# Altium footprint library NTA53321G0FHKZ.PcbLib: 1 footprints
Each footprint in its own frame and in the unit in brackets; x right, y up, seen from the top. Pads: shape width x height; smd on the part's side, far side on the other; paste and mask are expansions set on the pad; w line width, h text height; cw(c..) or ccw(c..) is an arc to the next point about the centre after c.
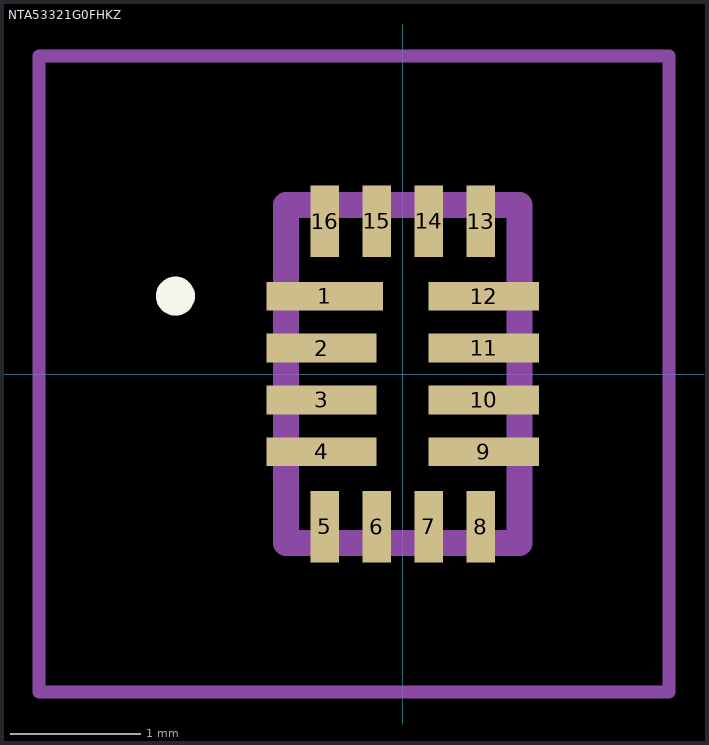
[diagram p0: the footprint, top view; thin cyan lines are the x and y axes]

## NTA53321G0FHKZ [mm]
pads (16):
  rect 0.9x0.22 smd: 1(-0.6,0.6)
  rect 0.85x0.22 smd: 2(-0.625,0.2) 3(-0.625,-0.2) 4(-0.625,-0.6) 9(0.625,-0.6) 10(0.625,-0.2) 11(0.625,0.2) 12(0.625,0.6)
  rect 0.22x0.55 smd: 5(-0.6,-1.175) 6(-0.2,-1.175) 7(0.2,-1.175) 8(0.6,-1.175) 13(0.6,1.175) 14(0.2,1.175) 15(-0.2,1.175) 16(-0.6,1.175)
Top Overlay:
  lines w0.2: -1.8,0.6 ccw(c-1.75,0.6) -1.7,0.6 ; -1.8,0.6 cw(c-1.75,0.6) -1.7,0.6 ; -1.8,0.6 ccw(c-1.75,0.6) -1.7,0.6
Mechanical 15:
  lines w0.2: -0.9,-1.3 -0.9,1.3 0.9,1.3 0.9,-1.3 -0.9,-1.3
Mechanical 20:
  lines w0.1: -2.8,-2.45 -2.8,2.45 2.05,2.45 2.05,-2.45 -2.8,-2.45
3D body "NTA53321G0FHKZ.stp": height 0.5, standoff 0, extent -0.9,-1.3 0.9,1.3